# Altium footprint library PhantomPowerSupply_Footprints.PcbLib: 11 footprints
Each footprint in its own frame and in the unit in brackets; x right, y up, seen from the top. Pads: shape width x height; smd on the part's side, far side on the other; paste and mask are expansions set on the pad; w line width, h text height; cw(c..) or ccw(c..) is an arc to the next point about the centre after c.
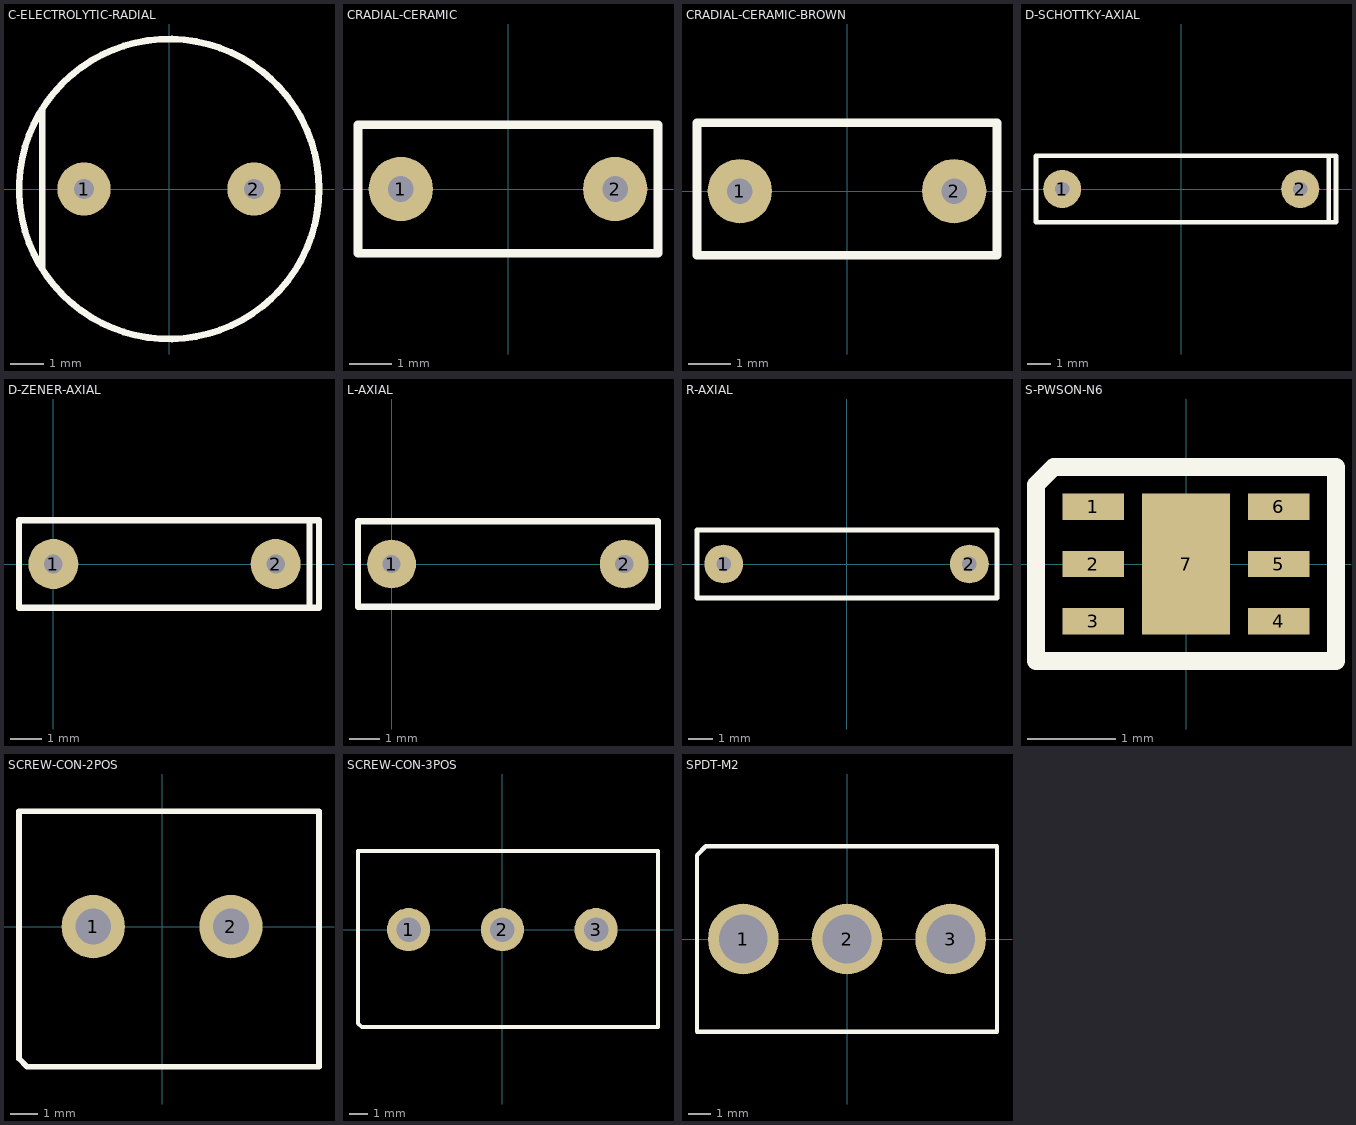
[diagram p0: the footprints below, top view; thin cyan lines are the x and y axes]

## C-ELECTROLYTIC-RADIAL [mm]
pads (2):
  round 1.6 hole 0.6: 1(-2.55,0) 2(2.55,0)
Top Overlay:
  circle w0.2: c0,0 r4.5
  lines w0.2: -3.8,-2.4 -3.8,2.4
3D body: height 12.8, standoff -2.6, extent -5.08,-5.062 5.039,5.062

## CRADIAL-CERAMIC [mm]
pads (2):
  round 1.5 hole 0.6: 1(-2.5,0) 2(2.5,0)
Top Overlay:
  lines w0.2: -3.5,-1.5 -3.5,1.5 3.5,1.5 3.5,-1.5 -3.5,-1.5
3D body: height 6.54, standoff -2.5, extent -2.75,-1.25 2.75,1.25

## CRADIAL-CERAMIC-BROWN [mm]
pads (2):
  round 1.5 hole 0.6: 1(-2.5,0) 2(2.5,0)
Top Overlay:
  lines w0.2: -3.5,-1.5 3.5,-1.5 3.5,1.6 -3.5,1.6 -3.5,-1.5
3D body: height 7.25, standoff -1.25, extent -3.495,-0.896 3.495,0.8

## D-SCHOTTKY-AXIAL [mm]
pads (2):
  round 1.6 hole 0.6: 1(-5,0) 2(5,0)
Top Overlay:
  lines w0.2: 6.2,-1.4 6.5,-1.4 6.5,1.4 6.2,1.4 ; 6.2,-1.4 6.2,1.4 ; 6.2,-1.4 -6.1,-1.4 -6.1,1.4 -6,1.4 -5.3,1.4 6.2,1.4
3D body: height 3.3, standoff -1.9, extent -5.4,-1.3 5.3,1.304

## D-ZENER-AXIAL [mm]
pads (2):
  round 1.6 hole 0.6: 1(0,0) 2(7.112,0)
Top Overlay:
  lines w0.2: 8.2,-1.4 -1.1,-1.4 -1.1,1.4 -1,1.4 -0.3,1.4 8.2,1.4 ; 8.2,-1.4 8.2,1.4 ; 8.2,-1.4 8.5,-1.4 8.5,1.4 8.4,1.4 8.2,1.4
3D body: height 2.34, standoff -2.32, extent -0.314,-0.826 7.414,0.85

## L-AXIAL [mm]
pads (2):
  round 1.6 hole 0.6: 1(0,0) 2(7.62,0)
Top Overlay:
  lines w0.2: -1.1,-1.4 8.725,-1.4 8.725,1.4 -0.3,1.4 -1,1.4 -1.1,1.4 -1.1,-1.4
3D body: height 2.7, standoff -3.5, extent -0.3,-1.207 7.92,1.2

## R-AXIAL [mm]
pads (2):
  round 1.6 hole 0.6: 1(-5.08,0) 2(5.08,0)
Top Overlay:
  lines w0.2: -6.18,-1.4 -6.18,1.4 -6.08,1.4 -5.38,1.4 6.22,1.4 6.22,-1.4 -6.18,-1.4
3D body: height 2.93, standoff -2.54, extent -5.385,-1.155 5.385,1.156

## S-PWSON-N6 [mm]
pads (7):
  rect 0.7x0.3 smd mask+0.04: 1(-1.05,0.65) 2(-1.05,0) 3(-1.05,-0.65) 4(1.05,-0.65) 5(1.05,0) 6(1.05,0.65)
  rect 1x1.6 smd mask+0.04: 7(0,0)
Top Overlay:
  lines w0.2: -1.7,-1.1 1.7,-1.1 1.7,1.1 0.2,1.1 -1.5,1.1 -1.7,0.9 -1.7,-1.1
3D body: height 0.75, standoff 0, extent -1.001,-1 1.001,1

## SCREW-CON-2POS [mm]
pads (2):
  round 2.3 hole 1.3: 1(-2.5,0) 2(2.5,0)
Top Overlay:
  lines w0.2: -5,4.2 -5.1,4.2 -5.2,4.2 ; -5.2,4.2 5.7,4.2 5.7,-5.1 -4.9,-5.1 -5.2,-4.8 -5.2,4.2
3D body: height 11.4, standoff -3.5, extent -5.01,-4.95 5.56,4.05

## SCREW-CON-3POS [mm]
pads (3):
  round 2.3 hole 1.3: 1(-5,0) 2(0,0) 3(5,0)
Top Overlay:
  lines w0.2: -7.5,4.2 -7.6,4.2 -7.7,4.2 ; -7.7,4.2 -7.7,-5 -7.5,-5.2 8.3,-5.2 8.3,4.2 -7.7,4.2
3D body: height 11.4, standoff -3.5, extent -7.485,-5 8.085,4

## SPDT-M2 [mm]
pads (3):
  round 3.2 hole 2.2: 1(-4.7,0) 2(0,0) 3(4.7,0)
Top Overlay:
  lines w0.2: -6.8,-4.2 6.8,-4.2 6.8,4.2 -6.4,4.2 -6.8,3.8 -6.8,-4.2
3D body: height 33.36, standoff -2.35, extent -6.6,-4.024 6.6,3.975